# EAGLE library part POLOLU-MP6500 (library Pololu-MP6500)
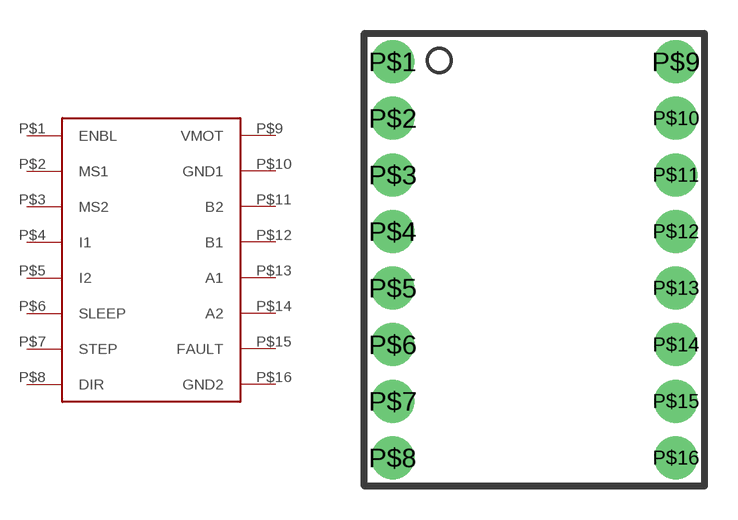
[diagram p0: symbol with the pads of STEPPER-CARRIER; footprint STEPPER-CARRIER]

Designator prefix DRV

## POLOLU-MP6500  [STEPPER-CARRIER]
P$1  ENBL
P$2  MS1
P$3  MS2
P$4  I1
P$5  I2
P$6  SLEEP
P$7  STEP
P$8  DIR
P$9  VMOT
P$10  GND1
P$11  B2
P$12  B1
P$13  A1
P$14  A2
P$15  FAULT
P$16  GND2

## Footprint STEPPER-CARRIER (pad centres in mm)
drill 1.016 pad 1.93: P$1 -3.81,5.08; P$2 -3.81,2.54; P$3 -3.81,0; P$4 -3.81,-2.54; P$5 -3.81,-5.08; P$6 -3.81,-7.62; P$7 -3.81,-10.16; P$8 -3.81,-12.7; P$9 8.89,5.08; P$10 8.89,2.54; P$11 8.89,0; P$12 8.89,-2.54; P$13 8.89,-5.08; P$14 8.89,-7.62; P$15 8.89,-10.16; P$16 8.89,-12.7